# Altium schematic symbol library Schlib1.SchLib: 9 symbols
Pins are listed as number, name and electrical type; pins without a type are passive.

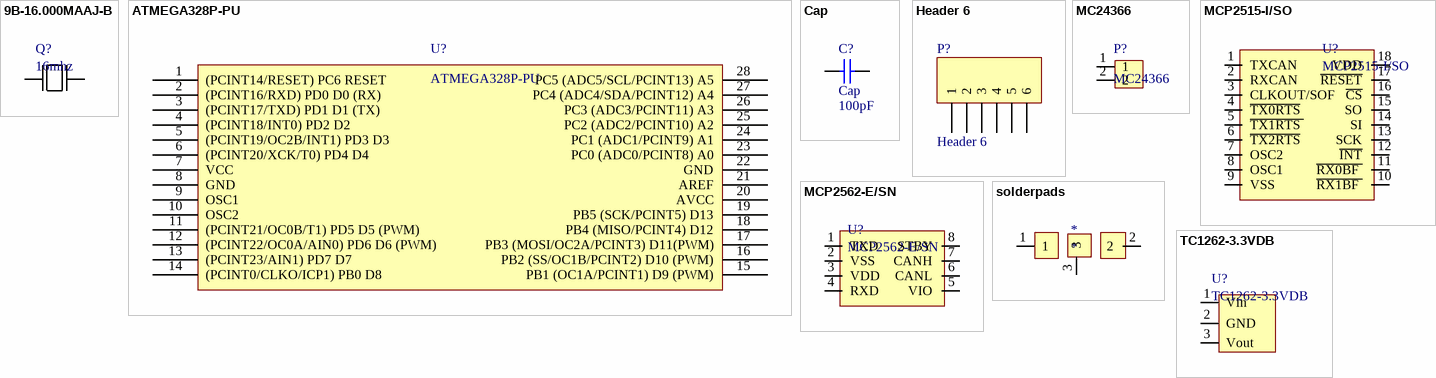
[diagram p0: symbols 9B-16.000MAAJ-B to TC1262-3.3VDB]

## 9B-16.000MAAJ-B
designator Q?, comment 16mhz
16MHz ±30ppm Crystal 18pF 30 Ohm -20°C ~ 70°C  Through Hole HC49/US; Manufacturer: TXC; Manufacturer Part Number: 9B-16.000MAAJ-B; Catalog Drawings: 9B Series Side 1 / 9B Series Side 2 / 9B Series Bottom / 9B Series Top; Type: MHz Crystal; ESR (Equivalent Series Resistance): 30 Ohm; Operating Mode: Fundamental; Dynamic Catalog: 9B Series; Other Names: 887-1019; Supplier 1: Farnell; Stock 1: 9009; Pricing 1: 1=0.436, 50=0.303, 100=0.252, 250=0.248, 500=0.235, 1000=0.186, 5000=0.179, 10000=0.175 (EUR); Standard Package: 1,000; Category: Crystals and Oscillators; Family: Crystals; Series: 9B; Frequency: 16MHz; Frequency Stability: ±30ppm; Frequency Tolerance: ±30ppm; Load Capacitance: 18pF; Operating Temperature: -20°C ~ 70°C; Mounting Type: Through Hole; Package / Case: HC49/US; Size / Dimension: 0.453" L x 0.197" W (11.50mm x 5.00mm); Height: 0.145" (3.68mm); Packaging: Bulk; ComponentLink1URL: https://datasheet.ciiva.com/855/9b-855214.pdf; ComponentLink1Description: https://datasheet.ciiva.com/855/9b-855214.pdf; ComponentLink2URL: https://datasheet.ciiva.com/1356/number-crystal-basic-1356749.pdf; ComponentLink2Description: https://datasheet.ciiva.com/1356/number-crystal-basic-1356749.pdf; ComponentLink3URL: https://datasheet.ciiva.com/26833/getdatasheetpartid-743113-26833255.pdf; ComponentLink3Description: https://datasheet.ciiva.com/26833/getdatasheetpartid-743113-26833255.pdf; Supplier Part Number 1: 1842216
footprint DIP HC-49S (XTAL 16mhz)
pins: 1, 2

## ATMEGA328P-PU
designator U?
ATMEL         ATMEGA328P-PU            8 Bit Microcontroller, Low Power High Performance, ATmega, 20 MHz, 32 KB, 2 KB, 28 Pins, DIP; Manuf. Code: ATM; Clock speed: 20 MHz; Series (embedded microcontroller): AVR® ATmega; Core size: 8-Bit; Processor core: AVR; Oscillator type: Internal; Peripherals: Brown-out Detect/Reset, POR, PWM, WDT; I/O number: 23; Program memory type: FLASH; Supply voltage (max.): 5.5 V; Supply voltage (min.): 1.8 V; Data converter (embedded microcontroller): A/D 6x10b; EEPROM size: 1 K x 8; Connectivity: I²C, SPI, UART/USART; Program memory size: 32 KB (16 K x 16); RAM size: 2 K x 8; Casing: PDIP 28; Supplier 1: Farnell; Manufacturer: Atmel; Manufacturer Part Number: ATMEGA328P-PU; Stock 1: 2066; Pricing 1: 1=3.33, 10=2.98, 25=2.68, 50=2.48, 100=2.35, 250=1.98, 600=1.67, 2000=1.64 (EUR); Type: ATMEGA328P-PU; Max. operating temperature: +85 °C; Operating temperature (min.): -40 °C; ComponentLink1URL: https://datasheet.ciiva.com/19457/2139111-19457070.pdf; ComponentLink1Description: https://datasheet.ciiva.com/19457/2139111-19457070.pdf; ComponentLink2URL: https://datasheet.ciiva.com/20168/73-4283-20168380.pdf; ComponentLink2Description: https://datasheet.ciiva.com/20168/73-4283-20168380.pdf; ComponentLink3URL: https://datasheet.ciiva.com/1157/1684409-1157696.pdf; ComponentLink3Description: https://datasheet.ciiva.com/1157/1684409-1157696.pdf; ComponentLink4URL: https://datasheet.ciiva.com/29119/155197-da-01-en-microcontr-atmega328p-pu-8bit-pdip-28-29119593.pdf; ComponentLink4Description: https://datasheet.ciiva.com/29119/155197-da-01-en-microcontr-atmega328p-pu-8bit-pdip-28-29119593.pdf; ComponentLink5URL: https://datasheet.ciiva.com/26818/atmega328p-pu-26818578.pdf; ComponentLink5Description: https://datasheet.ciiva.com/26818/atmega328p-pu-26818578.pdf; ComponentLink6URL: https://datasheet.ciiva.com/15213/getdatasheetpartid-318533-15213133.pdf; ComponentLink6Description: https://datasheet.ciiva.com/15213/getdatasheetpartid-318533-15213133.pdf; Supplier Part Number 1: 1715487
footprint DIP28
pins: 1 (PCINT14/RESET) PC6 RESET, 2 (PCINT16/RXD) PD0 D0 (RX), 3 (PCINT17/TXD) PD1 D1 (TX), 4 (PCINT18/INT0) PD2 D2, 5 (PCINT19/OC2B/INT1) PD3 D3, 6 (PCINT20/XCK/T0) PD4 D4, 7 VCC, 8 GND, 9 OSC1, 10 OSC2, 11 (PCINT21/OC0B/T1) PD5 D5 (PWM), 12 (PCINT22/OC0A/AIN0) PD6 D6 (PWM), 13 (PCINT23/AIN1) PD7 D7, 14 (PCINT0/CLKO/ICP1) PB0 D8, 15 PB1 (OC1A/PCINT1) D9 (PWM), 16 PB2 (SS/OC1B/PCINT2) D10 (PWM), 17 PB3 (MOSI/OC2A/PCINT3) D11(PWM), 18 PB4 (MISO/PCINT4) D12, 19 PB5 (SCK/PCINT5) D13, 20 AVCC, 21 AREF, 22 GND, 23 PC0 (ADC0/PCINT8) A0, 24 PC1 (ADC1/PCINT9) A1, 25 PC2 (ADC2/PCINT10) A2, 26 PC3 (ADC3/PCINT11) A3, 27 PC4 (ADC4/SDA/PCINT12) A4, 28 PC5 (ADC5/SCL/PCINT13) A5

## Cap
designator C?  value 100pF
Capacitor; Manufacturer: Walsin Technologies; Manufacturer Part Number: 0603B104K500CT; Capacitance: 100000 pF; Case Style: Ceramic Chip; Product Depth (mm): 0.8 mm; Product Diameter (mm): Not Required mm; Product Length (mm): 1.6 mm; Rad Hardened: No; Temp Coeff (Dielectric): X7R; Tolerance (+ or -): 10%; Voltage: 50VDC; Wire Form: Not Required; Published: 8-Jun-2000; LatestRevisionDate: 17-Jul-2002; LatestRevisionNote: Re-released for DXP Platform.; PackageReference: RAD-0.3; Publisher: Altium Limited; PackageDescription: Radial Cap, Thru-Hole; 2 Leads; 0.3 in Pin Spacing; Supplier 1: Farnell; Stock 1: 3233000; Pricing 1: 4000=0.0042, 20000=0.0028, 40000=0.0022 (EUR); Construction: SMT Chip; Failure Rate: Not Required; Mounting Style: Surface Mount; Operating Temp Range: -55C to 125C; Package / Case: 0603; Packaging: Tape and Reel; Product Height (mm): 0.8 mm; ComponentLink1URL: https://www.verical.com/server-webapp/html/getDatasheet?partID=415741; ComponentLink1Description: https://www.verical.com/server-webapp/html/getDatasheet?partID=415741; ComponentLink2URL: http://www.farnell.com/datasheets/1958513.pdf; ComponentLink2Description: http://www.farnell.com/datasheets/1958513.pdf; ComponentLink3URL: http://components.arrow.com/part/dataview/0323_00656447; ComponentLink3Description: http://components.arrow.com/part/dataview/0323_00656447; Supplier Part Number 1: 2495333
simulation model CAP (Capacitor)
signal-integrity model Cap
footprint 0603 cap
pins: 1, 2

## Header 6
designator P?
Header, 6-Pin; LatestRevisionDate: 17-Jul-2002; LatestRevisionNote: Re-released for DXP Platform.; Publisher: Altium Limited
footprint HDR1X6 (Connector; Header; 6 Position)
signal-integrity model Connector
pins: 1, 2, 3, 4, 5, 6

## MC24366
designator P?
TERMINAL BLOCK EUROSTYLE, 2POS, 26-12AWG; Manufacturer: Multicomp; No. of Positions: 2Ways; Rated Voltage: 300V; Rated Current: 16A; Wire Size AWG Min: 26AWG; Wire Size AWG Max: 12AWG; Pitch Spacing: 5.08mm; Wire Connection Method: Screw; Block Orientation: Through Hole Right Angle; SVHC: No SVHC (15-Jun-2015); Supplier 1: Farnell; Manufacturer Part Number: MC24366; Stock 1: 9112; Pricing 1: 1=0.319, 5=0.288, 25=0.257, 50=0.226, 100=0.195, 250=0.165 (EUR); Series: MB310-508M; ComponentLink1URL: https://datasheet.ciiva.com/23597/ta-987-23597041.pdf; ComponentLink1Description: https://datasheet.ciiva.com/23597/ta-987-23597041.pdf; ComponentLink2URL: https://datasheet.ciiva.com/5717/ta-987-5717047.pdf; ComponentLink2Description: https://datasheet.ciiva.com/5717/ta-987-5717047.pdf; Supplier Part Number 1: 2396251
footprint 2pin screw terminal
pins: 1, 2

## MCP2515-I/SO
designator U?
MICROCHIP         MCP2515-I/SO             CAN Bus, Controller, SPI, 3, 2, 2.7 V, 5.5 V, SOIC; Manufacturer: Microchip Technology; No. of TX Buffers: 3; No. of RX Buffers: 2; Supply Voltage Min: 2.7V; Supply Voltage Max: 5.5V; No. of Pins: 18Pins; Supplier 1: Farnell; Manufacturer Part Number: MCP2515-I/SO; Stock 1: 8767; Pricing 1: 1=1.83, 10=1.55, 25=1.46, 50=1.36, 100=1.29 (EUR); IC Interface Type: SPI; Interface Case Style: SOIC; Operating Temperature Min: -40°C; Operating Temperature Max: 85°C; Packaging: Each; Product Range: -; Automotive Qualification Standard: -; ComponentLink1URL: https://datasheet.ciiva.com/14152/ea644222-e-14152533.pdf; ComponentLink1Description: https://datasheet.ciiva.com/14152/ea644222-e-14152533.pdf; ComponentLink2URL: https://datasheet.ciiva.com/18405/70045398-18405546.pdf; ComponentLink2Description: https://datasheet.ciiva.com/18405/70045398-18405546.pdf; ComponentLink3URL: https://datasheet.ciiva.com/1495/1669372-1495083.pdf; ComponentLink3Description: https://datasheet.ciiva.com/1495/1669372-1495083.pdf; ComponentLink4URL: https://datasheet.ciiva.com/1695/21801g-1695405.pdf; ComponentLink4Description: https://datasheet.ciiva.com/1695/21801g-1695405.pdf; ComponentLink5URL: https://datasheet.ciiva.com/15150/getdatasheetpartid-446809-15150054.pdf; ComponentLink5Description: https://datasheet.ciiva.com/15150/getdatasheetpartid-446809-15150054.pdf; ComponentLink6URL: https://datasheet.ciiva.com/16205/filehandler-aspxddocname-en011733-16205222.pdf; ComponentLink6Description: https://datasheet.ciiva.com/16205/filehandler-aspxddocname-en011733-16205222.pdf; ComponentLink7URL: https://datasheet.ciiva.com/29305/651448-da-01-en-ic-can-cont-mcp2515-i-so-soic-18-mcp-29305158.pdf; ComponentLink7Description: https://datasheet.ciiva.com/29305/651448-da-01-en-ic-can-cont-mcp2515-i-so-soic-18-mcp-29305158.pdf; Supplier Part Number 1: 1292239
footprint SOIC18 (MCP2515-I/SO)
pins: 1 TXCAN , 2 RXCAN , 3 CLKOUT/SOF, 4 ~{TX0RTS}, 5 ~{TX1RTS }, 6 ~{TX2RTS}, 7 OSC2, 8 OSC1, 9 VSS, 10 ~{RX1BF }, 11 ~{RX0BF }, 12 ~{INT}, 13 SCK, 14 SI, 15 SO, 16 ~{CS}, 17 ~{RESET}, 18 VDD

## MCP2562-E/SN
designator U?
MICROCHIP         MCP2562-E/SN            CAN Bus, Transceiver, CAN, LIN, 1, 1, 4.5 V, 5.5 V, SOIC; Manufacturer: Microchip Technology; Propagation Delay Time ns: 125 ns; Data Rate: 1 Mbps; Operating Supply Voltage: 1.8 V to 5.5 V; Supply Current: 70 mA; Supply Voltage - Max: 5.5 V; Supply Voltage - Min: 1.8 V; Supplier 1: Farnell; Manufacturer Part Number: MCP2562-E/SN; Stock 1: 10814; Pricing 1: 1=1.12, 10=0.838, 25=0.714, 50=0.674, 100=0.638 (EUR); Product Category: CAN Interface IC; RoHS: Details; Type: CAN Transceiver; Operating Temperature Range: - 40 C to + 125 C; Package / Case: SOIC-8; Packaging: Tube; Brand: Microchip Technology; Maximum Operating Temperature: + 125 C; Minimum Operating Temperature: - 40 C; Mounting Style: SMD/SMT; Propagation Delay Time: 125 ns; Factory Pack Quantity: 100; ComponentLink1URL: https://datasheet.ciiva.com/26922/getdatasheetpartid-776214-26922473.pdf; ComponentLink1Description: https://datasheet.ciiva.com/26922/getdatasheetpartid-776214-26922473.pdf; ComponentLink2URL: https://datasheet.ciiva.com/24192/filehandler-aspxddocname-en561044-24192158.pdf; ComponentLink2Description: https://datasheet.ciiva.com/24192/filehandler-aspxddocname-en561044-24192158.pdf; ComponentLink3URL: https://datasheet.ciiva.com/39123/21125167b-39123503.pdf; ComponentLink3Description: https://datasheet.ciiva.com/39123/21125167b-39123503.pdf; ComponentLink4URL: https://datasheet.ciiva.com/18624/25167b-18624808.pdf; ComponentLink4Description: https://datasheet.ciiva.com/18624/25167b-18624808.pdf; ComponentLink5URL: https://datasheet.ciiva.com/29898/25167b-29898006.pdf; ComponentLink5Description: https://datasheet.ciiva.com/29898/25167b-29898006.pdf; ComponentLink6URL: https://datasheet.ciiva.com/22747/1755821-22747911.pdf; ComponentLink6Description: https://datasheet.ciiva.com/22747/1755821-22747911.pdf; ComponentLink7URL: https://datasheet.ciiva.com/48512/mcp2562-eng-tds-48512071.pdf; ComponentLink7Description: https://datasheet.ciiva.com/48512/mcp2562-eng-tds-48512071.pdf; Supplier Part Number 1: 2362839
footprint SOIC8 (MCP2562-E/SO)
pins: 1 TXD, 2 VSS, 3 VDD, 4 RXD, 5 VIO, 6 CANL, 7 CANH, 8 STBY

## solderpads
designator *
footprint solderpads
pins: 1, 2, 3

## TC1262-3.3VDB
designator U?
footprint SOT230P700X180-4N (SOT223, 4-Leads, Body 6,50x7,00mm (avg), Pitch 2,30mm, IPC Medium Density)
pins: 1 Vin, 2 GND, 3 Vout